# Altium footprint library HVQFN32-5X5_3MMTHERMAL.PcbLib: 1 footprints
Each footprint in its own frame and in the unit in brackets; x right, y up, seen from the top. Pads: shape width x height; smd on the part's side, far side on the other; paste and mask are expansions set on the pad; w line width, h text height; cw(c..) or ccw(c..) is an arc to the next point about the centre after c.
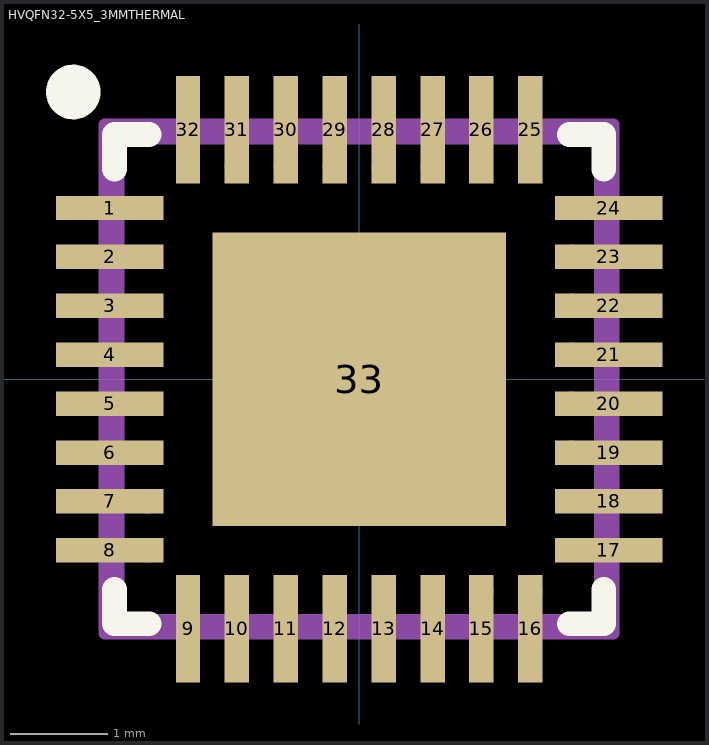
[diagram p0: the footprint, top view; thin cyan lines are the x and y axes]

## HVQFN32-5X5_3MMTHERMAL [mm]
pads (33):
  rect 1.1x0.25 smd mask-25.4: 1(-2.55,1.75) 8(-2.55,-1.75) 17(2.55,-1.75) 24(2.55,1.75)
  rect 1.1x0.25 smd paste-25.4 mask-25.4: 2(-2.55,1.25) 3(-2.55,0.75) 4(-2.55,0.25) 5(-2.55,-0.25) 6(-2.55,-0.75) 7(-2.55,-1.25) 18(2.55,-1.25) 19(2.55,-0.75) 20(2.55,-0.25) 21(2.55,0.25) 22(2.55,0.75) 23(2.55,1.25)
  rect 0.25x1.1 smd mask-25.4: 9(-1.75,-2.55) 16(1.75,-2.55) 25(1.75,2.55) 32(-1.75,2.55)
  rect 0.25x1.1 smd paste-25.4 mask-25.4: 10(-1.25,-2.55) 11(-0.75,-2.55) 12(-0.25,-2.55) 13(0.25,-2.55) 14(0.75,-2.55) 15(1.25,-2.55) 26(1.25,2.55) 27(0.75,2.55) 28(0.25,2.55) 29(-0.25,2.55) 30(-0.75,2.55) 31(-1.25,2.55)
  rect 3x3 smd mask-25.4: 33(0,0)
Top Overlay:
  circle w0.305: c-2.923,2.936 r0.127
  lines w0.254: -2.5,-2.15 -2.5,-2.5 -2.15,-2.5 ; -2.5,2.15 -2.5,2.5 -2.15,2.5 ; 2.15,-2.5 2.5,-2.5 2.5,-2.15 ; 2.15,2.5 2.5,2.5 2.5,2.15
Top Paste:
  region: -1.375,3.1 -1.375,2 -1.125,2 -1.125,3.1
  region: -0.875,3.1 -0.875,2 -0.625,2 -0.625,3.1
  region: -0.375,3.1 -0.375,2 -0.125,2 -0.125,3.1
  region: 0.125,3.1 0.125,2 0.375,2 0.375,3.1
  region: 0.625,3.1 0.625,2 0.875,2 0.875,3.1
  region: 1.125,3.1 1.125,2 1.375,2 1.375,3.1
  region: 3.1,1.375 2,1.375 2,1.125 3.1,1.125
  region: 3.1,0.875 2,0.875 2,0.625 3.1,0.625
  region: 3.1,0.375 2,0.375 2,0.125 3.1,0.125
  region: 3.1,-0.125 2,-0.125 2,-0.375 3.1,-0.375
  region: 3.1,-0.625 2,-0.625 2,-0.875 3.1,-0.875
  region: 3.1,-1.125 2,-1.125 2,-1.375 3.1,-1.375
  region: 1.375,-3.1 1.375,-2 1.125,-2 1.125,-3.1
  region: 0.875,-3.1 0.875,-2 0.625,-2 0.625,-3.1
  region: 0.375,-3.1 0.375,-2 0.125,-2 0.125,-3.1
  region: -0.125,-3.1 -0.125,-2 -0.375,-2 -0.375,-3.1
  region: -0.625,-3.1 -0.625,-2 -0.875,-2 -0.875,-3.1
  region: -1.125,-3.1 -1.125,-2 -1.375,-2 -1.375,-3.1
  region: -3.1,-1.375 -2,-1.375 -2,-1.125 -3.1,-1.125
  region: -3.1,-0.875 -2,-0.875 -2,-0.625 -3.1,-0.625
  region: -3.1,-0.375 -2,-0.375 -2,-0.125 -3.1,-0.125
  region: -3.1,0.125 -2,0.125 -2,0.375 -3.1,0.375
  region: -3.1,0.625 -2,0.625 -2,0.875 -3.1,0.875
  region: -3.1,1.125 -2,1.125 -2,1.375 -3.1,1.375
Top Solder:
  circle w0: c-2.925,2.925 r0.381
  region: -1.6,-1.6 1.6,-1.6 1.6,1.6 -1.6,1.6
  region: -1.975,3.2 -1.975,1.9 -1.525,1.9 -1.525,3.2
  region: -1.475,3.2 -1.475,1.9 -1.025,1.9 -1.025,3.2
  region: -0.975,3.2 -0.975,1.9 -0.525,1.9 -0.525,3.2
  region: -0.475,3.2 -0.475,1.9 -0.025,1.9 -0.025,3.2
  region: 0.025,3.2 0.025,1.9 0.475,1.9 0.475,3.2
  region: 0.525,3.2 0.525,1.9 0.975,1.9 0.975,3.2
  region: 1.025,3.2 1.025,1.9 1.475,1.9 1.475,3.2
  region: 1.525,3.2 1.525,1.9 1.975,1.9 1.975,3.2
  region: 3.2,1.975 1.9,1.975 1.9,1.525 3.2,1.525
  region: 3.2,1.475 1.9,1.475 1.9,1.025 3.2,1.025
  region: 3.2,0.975 1.9,0.975 1.9,0.525 3.2,0.525
  region: 3.2,0.475 1.9,0.475 1.9,0.025 3.2,0.025
  region: 3.2,-0.025 1.9,-0.025 1.9,-0.475 3.2,-0.475
  region: 3.2,-0.525 1.9,-0.525 1.9,-0.975 3.2,-0.975
  region: 3.2,-1.025 1.9,-1.025 1.9,-1.475 3.2,-1.475
  region: 3.2,-1.525 1.9,-1.525 1.9,-1.975 3.2,-1.975
  region: 1.975,-3.2 1.975,-1.9 1.525,-1.9 1.525,-3.2
  region: 1.475,-3.2 1.475,-1.9 1.025,-1.9 1.025,-3.2
  region: 0.975,-3.2 0.975,-1.9 0.525,-1.9 0.525,-3.2
  region: 0.475,-3.2 0.475,-1.9 0.025,-1.9 0.025,-3.2
  region: -0.025,-3.2 -0.025,-1.9 -0.475,-1.9 -0.475,-3.2
  region: -0.525,-3.2 -0.525,-1.9 -0.975,-1.9 -0.975,-3.2
  region: -1.025,-3.2 -1.025,-1.9 -1.475,-1.9 -1.475,-3.2
  region: -1.525,-3.2 -1.525,-1.9 -1.975,-1.9 -1.975,-3.2
  region: -3.2,-1.975 -1.9,-1.975 -1.9,-1.525 -3.2,-1.525
  region: -3.2,-1.475 -1.9,-1.475 -1.9,-1.025 -3.2,-1.025
  region: -3.2,-0.975 -1.9,-0.975 -1.9,-0.525 -3.2,-0.525
  region: -3.2,-0.475 -1.9,-0.475 -1.9,-0.025 -3.2,-0.025
  region: -3.2,0.025 -1.9,0.025 -1.9,0.475 -3.2,0.475
  region: -3.2,0.525 -1.9,0.525 -1.9,0.975 -3.2,0.975
  region: -3.2,1.025 -1.9,1.025 -1.9,1.475 -3.2,1.475
  region: -3.2,1.525 -1.9,1.525 -1.9,1.975 -3.2,1.975
Bottom Solder:
  circle w0: c-2.925,2.925 r0.381
Mechanical 1:
  lines w0.127: -2.6,-2.6 2.6,-2.6 2.6,2.6 -2.6,2.6 -2.6,-2.6
  lines w0.15: -2.175,-1.8 ccw(c-2.175,-1.753) -2.175,-1.705 ; -2.175,-1.3 ccw(c-2.175,-1.252) -2.175,-1.205 ; -2.175,-0.8 ccw(c-2.175,-0.753) -2.175,-0.705 ; -2.175,-0.3 ccw(c-2.175,-0.252) -2.175,-0.205 ; -2.175,0.2 ccw(c-2.175,0.248) -2.175,0.295 ; -2.175,0.7 ccw(c-2.175,0.747) -2.175,0.795 ; -2.175,1.2 ccw(c-2.175,1.248) -2.175,1.295 ; -2.175,1.7 ccw(c-2.175,1.747) -2.175,1.795 ; -1.8,2.175 ccw(c-1.753,2.175) -1.705,2.175 ; -1.795,-2.175 cw(c-1.747,-2.175) -1.7,-2.175 ; -1.3,2.175 ccw(c-1.252,2.175) -1.205,2.175 ; -1.295,-2.175 cw(c-1.248,-2.175) -1.2,-2.175 ; -0.8,2.175 ccw(c-0.753,2.175) -0.705,2.175 ; -0.795,-2.175 cw(c-0.747,-2.175) -0.7,-2.175 ; -0.3,2.175 ccw(c-0.252,2.175) -0.205,2.175 ; -0.295,-2.175 cw(c-0.248,-2.175) -0.2,-2.175 ; 0.2,2.175 ccw(c0.248,2.175) 0.295,2.175 ; 0.205,-2.175 cw(c0.252,-2.175) 0.3,-2.175 ; 0.7,2.175 ccw(c0.747,2.175) 0.795,2.175 ; 0.705,-2.175 cw(c0.753,-2.175) 0.8,-2.175 ; 1.2,2.175 ccw(c1.248,2.175) 1.295,2.175 ; 1.205,-2.175 cw(c1.252,-2.175) 1.3,-2.175 ; 1.7,2.175 ccw(c1.747,2.175) 1.795,2.175 ; 1.705,-2.175 cw(c1.753,-2.175) 1.8,-2.175 ; 2.175,-1.795 cw(c2.175,-1.747) 2.175,-1.7 ; 2.175,-1.295 cw(c2.175,-1.248) 2.175,-1.2 ; 2.175,-0.795 cw(c2.175,-0.747) 2.175,-0.7 ; 2.175,-0.295 cw(c2.175,-0.248) 2.175,-0.2 ; 2.175,0.205 cw(c2.175,0.252) 2.175,0.3 ; 2.175,0.705 cw(c2.175,0.753) 2.175,0.8 ; 2.175,1.205 cw(c2.175,1.252) 2.175,1.3 ; 2.175,1.705 cw(c2.175,1.753) 2.175,1.8
  lines w0.203: -2.5,-2.5 -2.5,2.5 2.5,2.5 2.5,-2.5 -2.5,-2.5